# Altium integrated library Transistor.IntLib: 3457 symbols (part 4 of 78)
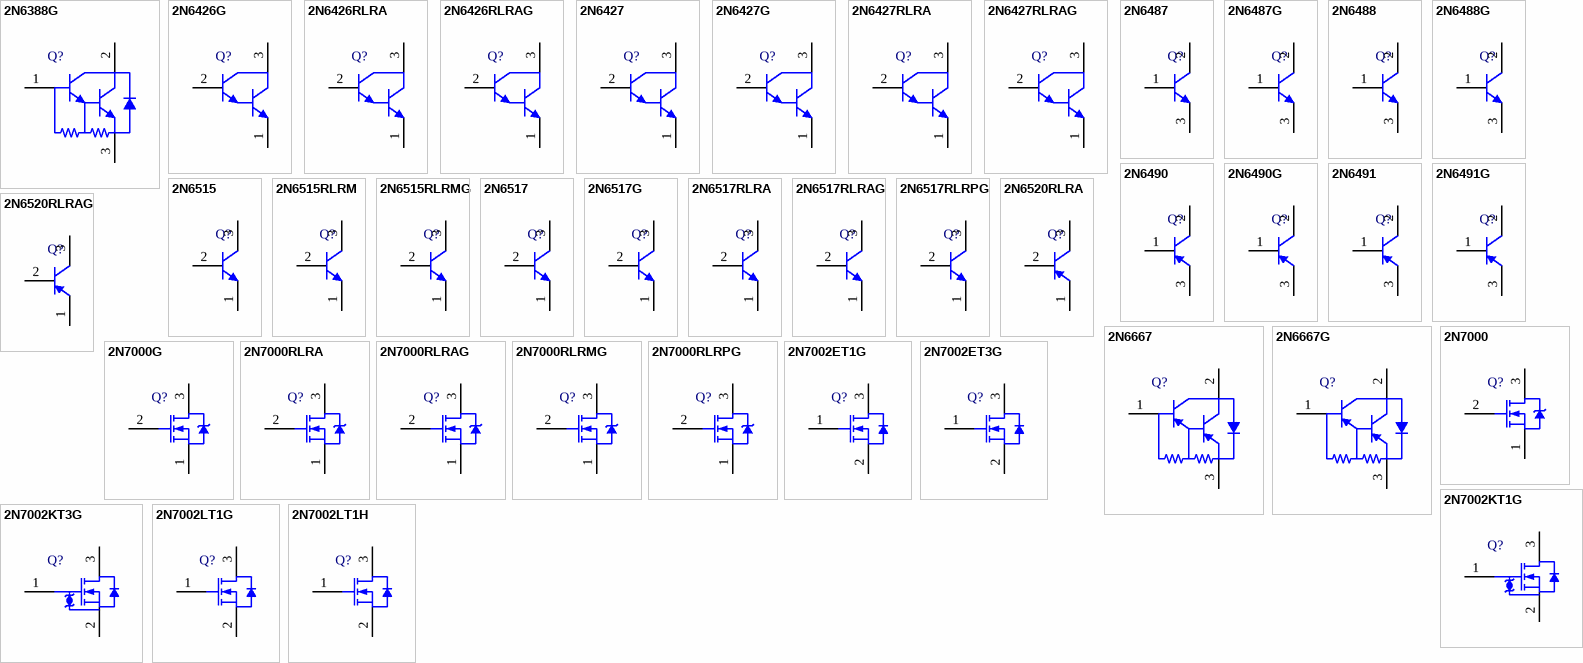
[diagram p97: symbols 2N6388G to 2N7002LT1H]

## 2N7000G
designator Q?
Small Signal MOSFET, 200 mA, 60 V, N-Channel, 3-Pin TO-92, Pb-Free, Bulk Box; Manufacturer: On Semiconductor; PartNumber: 2N7000G; Channel Polarity: N Channel; Ciss Typ (pF): 60; Configuration: Single; Coss Typ (pF): 25; Crss Typ (pF): 5; ID Max (A): 0.2; PD Max (W): 0.35; VGS Max (V): 20; VGS(th) Max (V): 3; DatasheetVersion: Rev. 8; PackageVersion: Rev. AM; PackageReference: TO-92-3-29-11_AM_SL; PackageDescription: 3-Pin Transistor Outline, Body 4.825 x 3.685 mm, Pitch 1.27 mm; Supplier 1: Digi-Key; Supplier Part Number 1: 2N7000GOS-ND; Supplier 2: Farnell; Supplier Part Number 2: 1459027; Supplier 3: Newark; Supplier Part Number 3: 88H5170; Supplier 4: Mouser; Supplier Part Number 4: 863-2N7000G; Package Type: TO-92; Packing: Bulk Box; RoHS: Pb-Free; V(BR)DSS Min (V): 60; Mounting Technology: Through Hole; ComponentLink1Description: Manufacturer URL; ComponentLink1URL: http://www.onsemi.com/; ComponentLink2Description: Datasheet; ComponentLink2URL: http://www.onsemi.com/pub_link/Collateral/2N7000-D.PDF; ComponentLink3Description: Package Specification; ComponentLink3URL: http://www.onsemi.cn/pub_link/Collateral/2N6426-D.PDF
footprint ONSC-TO-92-3-29-11 (TO, 3-Leads, Body Dia 4.7mm, Pitch 1.27mm)
pins: 1 S, 2 G, 3 D

## 2N7000RLRA
designator Q?
Small Signal MOSFET, 200 mA, 60 V, N-Channel, 3-Pin TO-92, Tape and Reel; Manufacturer: On Semiconductor; PartNumber: 2N7000RLRA; Channel Polarity: N Channel; Ciss Typ (pF): 60; Configuration: Single; Coss Typ (pF): 25; Crss Typ (pF): 5; ID Max (A): 0.2; PD Max (W): 0.35; VGS Max (V): 20; VGS(th) Max (V): 3; DatasheetVersion: Rev. 8; PackageVersion: Rev. AM; PackageReference: TO-92-3-29-11_AM_BL; PackageDescription: 3-Pin Transistor Outline, Body 4.825 x 3.685 mm, Pitch 1.27 mm; Supplier 1: Digi-Key; Supplier Part Number 1: 2N7000RLRAOSTR-ND; Supplier 2: Digi-Key; Supplier Part Number 2: 2N7000RLRAOSCT-ND; Package Type: TO-92; Packing: Tape and Reel; V(BR)DSS Min (V): 60; Mounting Technology: Through Hole; ComponentLink1Description: Manufacturer URL; ComponentLink1URL: http://www.onsemi.com/; ComponentLink2Description: Datasheet; ComponentLink2URL: http://www.onsemi.com/pub_link/Collateral/2N7000-D.PDF; ComponentLink3Description: Package Specification; ComponentLink3URL: http://www.onsemi.com/pub_link/Collateral/MAC97-D.PDF
footprint ONSC-TO-92-3-29-11_AM_BL (TO, 3-Leads, Body Dia 4.7mm, Pitch 2.6mm)
pins: 1 S, 2 G, 3 D

## 2N7000RLRAG
designator Q?
Small Signal MOSFET, 200 mA, 60 V, N-Channel, 3-Pin TO-92, Pb-Free, Tape and Reel; Manufacturer: On Semiconductor; PartNumber: 2N7000RLRAG; Channel Polarity: N Channel; Ciss Typ (pF): 60; Configuration: Single; Coss Typ (pF): 25; Crss Typ (pF): 5; ID Max (A): 0.2; PD Max (W): 0.35; VGS Max (V): 20; VGS(th) Max (V): 3; DatasheetVersion: Rev. 8; PackageVersion: Rev. AM; PackageReference: TO-92-3-29-11_AM_BL; PackageDescription: 3-Pin Transistor Outline, Body 4.825 x 3.685 mm, Pitch 1.27 mm; Supplier 1: Digi-Key; Supplier Part Number 1: 2N7000RLRAGOSTR-ND; Supplier 2: Digi-Key; Supplier Part Number 2: 2N7000RLRAGOSCT-ND; Supplier 3: Farnell; Supplier Part Number 3: 1155745; Supplier 4: Farnell; Supplier Part Number 4: 2370859; Supplier 5: Newark; Supplier Part Number 5: 88H5171; Supplier 6: Newark; Supplier Part Number 6: 67R1417; Supplier 7: Mouser; Supplier Part Number 7: 863-2N7000RLRAG; Package Type: TO-92; Packing: Tape and Reel; RoHS: Pb-Free; V(BR)DSS Min (V): 60; Mounting Technology: Through Hole; ComponentLink1Description: Manufacturer URL; ComponentLink1URL: http://www.onsemi.com/; ComponentLink2Description: Datasheet; ComponentLink2URL: http://www.onsemi.com/pub_link/Collateral/2N7000-D.PDF; ComponentLink3Description: Package Specification; ComponentLink3URL: http://www.onsemi.com/pub_link/Collateral/MAC97-D.PDF
footprint ONSC-TO-92-3-29-11_AM_BL (TO, 3-Leads, Body Dia 4.7mm, Pitch 2.6mm)
pins: 1 S, 2 G, 3 D

## 2N7000RLRMG
designator Q?
Small Signal MOSFET, 200 mA, 60 V, N-Channel, 3-Pin TO-92, Pb-Free, Fan-Fold; Manufacturer: On Semiconductor; PartNumber: 2N7000RLRMG; Channel Polarity: N Channel; Ciss Typ (pF): 60; Configuration: Single; Coss Typ (pF): 25; Crss Typ (pF): 5; ID Max (A): 0.2; PD Max (W): 0.35; VGS Max (V): 20; VGS(th) Max (V): 3; DatasheetVersion: Rev. 8; PackageVersion: Rev. AM; PackageReference: TO-92-3-29-11_AM_BL; PackageDescription: 3-Pin Transistor Outline, Body 4.825 x 3.685 mm, Pitch 1.27 mm; Supplier 1: Digi-Key; Supplier Part Number 1: 2N7000RLRMG-ND; Supplier 2: Mouser; Supplier Part Number 2: 863-2N7000RLRMG; Package Type: TO-92; Packing: Fan-Fold; RoHS: Pb-Free; V(BR)DSS Min (V): 60; Mounting Technology: Through Hole; ComponentLink1Description: Manufacturer URL; ComponentLink1URL: http://www.onsemi.com/; ComponentLink2Description: Datasheet; ComponentLink2URL: http://www.onsemi.com/pub_link/Collateral/2N7000-D.PDF; ComponentLink3Description: Package Specification; ComponentLink3URL: http://www.onsemi.com/pub_link/Collateral/MAC97-D.PDF
footprint ONSC-TO-92-3-29-11_AM_BL (TO, 3-Leads, Body Dia 4.7mm, Pitch 2.6mm)
pins: 1 S, 2 G, 3 D

## 2N7000RLRPG
designator Q?
Small Signal MOSFET, 200 mA, 60 V, N-Channel, 3-Pin TO-92, Pb-Free, Fan-Fold; Manufacturer: On Semiconductor; PartNumber: 2N7000RLRPG; Channel Polarity: N Channel; Ciss Typ (pF): 60; Configuration: Single; Coss Typ (pF): 25; Crss Typ (pF): 5; ID Max (A): 0.2; PD Max (W): 0.35; VGS Max (V): 20; VGS(th) Max (V): 3; DatasheetVersion: Rev. 8; PackageVersion: Rev. AM; PackageReference: TO-92-3-29-11_AM_BL; PackageDescription: 3-Pin Transistor Outline, Body 4.825 x 3.685 mm, Pitch 1.27 mm; Supplier 1: Digi-Key; Supplier Part Number 1: 2N7000RLRPG-ND; Supplier 2: Mouser; Supplier Part Number 2: 863-2N7000RLRPG; Package Type: TO-92; Packing: Fan-Fold; RoHS: Pb-Free; V(BR)DSS Min (V): 60; Mounting Technology: Through Hole; ComponentLink1Description: Manufacturer URL; ComponentLink1URL: http://www.onsemi.com/; ComponentLink2Description: Datasheet; ComponentLink2URL: http://www.onsemi.com/pub_link/Collateral/2N7000-D.PDF; ComponentLink3Description: Package Specification; ComponentLink3URL: http://www.onsemi.com/pub_link/Collateral/MAC97-D.PDF
footprint ONSC-TO-92-3-29-11_AM_BL (TO, 3-Leads, Body Dia 4.7mm, Pitch 2.6mm)
pins: 1 S, 2 G, 3 D

## 2N7002ET1G
designator Q?
Small Signal MOSFET, 60 V, 310 mA, Single, N-Channel, 3-Pin SOT-23, Pb-Free, Tape and Reel; Manufacturer: On Semiconductor; PartNumber: 2N7002ET1G; Channel Polarity: N Channel; Ciss Typ (pF): 26.7; Coss Typ (pF): 4.6; Crss Typ (pF): 2.9; ID Max (A): 0.31; V(BR)DSS Min (V): 60; VGS Max (V): 20; VGS(th) Max (V): 2.5; DatasheetVersion: Rev. 3; PackageVersion: Rev. AP, 11/2009; PackageReference: SOT-23-3-318-08; PackageDescription: 3-Pin Small Outline Transistor, Body 2.92 x 1.3 mm, Pitch 0.95 mm; Supplier 1: Digi-Key; Supplier Part Number 1: 2N7002ET1GOSTR-ND; Supplier 2: Digi-Key; Supplier Part Number 2: 2N7002ET1GOSCT-ND; Supplier 3: Digi-Key; Supplier Part Number 3: 2N7002ET1GOSDKR-ND; Supplier 4: Farnell; Supplier Part Number 4: 2317895; Supplier 5: Farnell; Supplier Part Number 5: 2317616; Supplier 6: Newark; Supplier Part Number 6: 09R9861; Supplier 7: Newark; Supplier Part Number 7: 50M2216; Supplier 8: Mouser; Supplier Part Number 8: 863-2N7002ET1G; Configuration: Single; Package Type: SOT-23-3; Packing: Tape and Reel; RoHS: Pb-Free; Mounting Technology: Surface Mount; ComponentLink1Description: Manufacturer URL; ComponentLink1URL: http://www.onsemi.com/; ComponentLink2Description: Datasheet; ComponentLink2URL: http://www.onsemi.com/pub_link/Collateral/2N7002E-D.PDF; ComponentLink3Description: Package Specification; ComponentLink3URL: http://www.onsemi.cn/pub_link/Collateral/318-08.PDF
footprint ONSC-SOT-23-3-318-08_V (SOT23, 3-Leads, Body 2.92x1.3mm, Pitch 0.95mm)
pins: 1 G, 2 S, 3 D

## 2N7002ET3G
designator Q?
Small Signal MOSFET, 60 V, 310 mA, Single, N-Channel, 3-Pin SOT-23, Pb-Free, Tape and Reel; Manufacturer: On Semiconductor; PartNumber: 2N7002ET3G; Channel Polarity: N Channel; Ciss Typ (pF): 26.7; Coss Typ (pF): 4.6; Crss Typ (pF): 2.9; ID Max (A): 0.31; V(BR)DSS Min (V): 60; VGS Max (V): 20; VGS(th) Max (V): 2.5; DatasheetVersion: Rev. 3; PackageVersion: Rev. AP, 11/2009; PackageReference: SOT-23-3-318-08; PackageDescription: 3-Pin Small Outline Transistor, Body 2.92 x 1.3 mm, Pitch 0.95 mm; Supplier 1: Digi-Key; Supplier Part Number 1: 2N7002ET3G-ND; Supplier 2: Newark; Supplier Part Number 2: 09R9862; Supplier 3: Mouser; Supplier Part Number 3: 863-2N7002ET3G; Configuration: Single; Package Type: SOT-23-3; Packing: Tape and Reel; RoHS: Pb-Free; Mounting Technology: Surface Mount; ComponentLink1Description: Manufacturer URL; ComponentLink1URL: http://www.onsemi.com/; ComponentLink2Description: Datasheet; ComponentLink2URL: http://www.onsemi.com/pub_link/Collateral/2N7002E-D.PDF; ComponentLink3Description: Package Specification; ComponentLink3URL: http://www.onsemi.cn/pub_link/Collateral/318-08.PDF
footprint ONSC-SOT-23-3-318-08_V (SOT23, 3-Leads, Body 2.92x1.3mm, Pitch 0.95mm)
pins: 1 G, 2 S, 3 D

## 2N7002KT1G
designator Q?
Small Signal MOSFET, 60 V, 380 mA, Single, N-Channel, 3-Pin SOT-23, Pb-Free, Tape and Reel; Manufacturer: On Semiconductor; PartNumber: 2N7002KT1G; Channel Polarity: N Channel; Ciss Typ (pF): 24.5; Coss Typ (pF): 4.2; Crss Typ (pF): 2.2; ID Max (A): 0.38; V(BR)DSS Min (V): 60; VGS Max (V): 20; VGS(th) Max (V): 2.3; DatasheetVersion: Rev. 11; PackageVersion: Rev. AP, 11/2009; PackageReference: SOT-23-3-318-08; PackageDescription: 3-Pin Small Outline Transistor, Body 2.92 x 1.3 mm, Pitch 0.95 mm; Supplier 1: Digi-Key; Supplier Part Number 1: 2N7002KT1GOSTR-ND; Supplier 2: Digi-Key; Supplier Part Number 2: 2N7002KT1GOSCT-ND; Supplier 3: Digi-Key; Supplier Part Number 3: 2N7002KT1GOSDKR-ND; Supplier 4: Farnell; Supplier Part Number 4: 2317619; Supplier 5: Farnell; Supplier Part Number 5: 2317894; Supplier 6: Newark; Supplier Part Number 6: 50M6388; Supplier 7: Newark; Supplier Part Number 7: 09R9863; Supplier 8: Mouser; Supplier Part Number 8: 863-2N7002KT1G; Configuration: Single; Package Type: SOT-23-3; Packing: Tape and Reel; RoHS: Pb-Free; Mounting Technology: Surface Mount; ComponentLink1Description: Manufacturer URL; ComponentLink1URL: http://www.onsemi.com/; ComponentLink2Description: Datasheet; ComponentLink2URL: http://www.onsemi.com/pub_link/Collateral/2N7002K-D.PDF; ComponentLink3Description: Package Specification; ComponentLink3URL: http://www.onsemi.cn/pub_link/Collateral/318-08.PDF
footprint ONSC-SOT-23-3-318-08_V (SOT23, 3-Leads, Body 2.92x1.3mm, Pitch 0.95mm)
pins: 1 G, 2 S, 3 D

## 2N7002KT3G
designator Q?
Small Signal MOSFET, 60 V, 380 mA, Single, N-Channel, 3-Pin SOT-23, Pb-Free, Tape and Reel; Manufacturer: On Semiconductor; PartNumber: 2N7002KT3G; Channel Polarity: N Channel; Ciss Typ (pF): 24.5; Coss Typ (pF): 4.2; Crss Typ (pF): 2.2; ID Max (A): 0.38; V(BR)DSS Min (V): 60; VGS Max (V): 20; VGS(th) Max (V): 2.3; DatasheetVersion: Rev. 11; PackageVersion: Rev. AP, 11/2009; PackageReference: SOT-23-3-318-08; PackageDescription: 3-Pin Small Outline Transistor, Body 2.92 x 1.3 mm, Pitch 0.95 mm; Supplier 1: Digi-Key; Supplier Part Number 1: 2N7002KT3G-ND; Supplier 2: Mouser; Supplier Part Number 2: 863-2N7002KT3G; Configuration: Single; Package Type: SOT-23-3; Packing: Tape and Reel; RoHS: Pb-Free; Mounting Technology: Surface Mount; ComponentLink1Description: Manufacturer URL; ComponentLink1URL: http://www.onsemi.com/; ComponentLink2Description: Datasheet; ComponentLink2URL: http://www.onsemi.com/pub_link/Collateral/2N7002K-D.PDF; ComponentLink3Description: Package Specification; ComponentLink3URL: http://www.onsemi.cn/pub_link/Collateral/318-08.PDF
footprint ONSC-SOT-23-3-318-08_V (SOT23, 3-Leads, Body 2.92x1.3mm, Pitch 0.95mm)
pins: 1 G, 2 S, 3 D

## 2N7002LT1G
designator Q?
Small Signal MOSFET, 60 V, 115 mA, N-Channel, 3-Pin SOT-23, Pb-Free, Tape and Reel; Manufacturer: On Semiconductor; PartNumber: 2N7002LT1G; Channel Polarity: N Channel; Configuration: Single; ID Max (A): 0.115; V(BR)DSS Min (V): 60; VGS Max (V): 20; VGS(th) Max (V): 2.5; DatasheetVersion: Rev. 7; PackageVersion: Rev. AP, 11/2009; PackageReference: SOT-23-3-318-08; PackageDescription: 3-Pin Small Outline Transistor, Body 2.92 x 1.3 mm, Pitch 0.95 mm; Supplier 1: Digi-Key; Supplier Part Number 1: 2N7002LT1GOSTR-ND; Supplier 2: Digi-Key; Supplier Part Number 2: 2N7002LT1GOSCT-ND; Supplier 3: Digi-Key; Supplier Part Number 3: 2N7002LT1GOSDKR-ND; Supplier 4: Farnell; Supplier Part Number 4: 9558624RL; Supplier 5: Farnell; Supplier Part Number 5: 9558624; Supplier 6: Farnell; Supplier Part Number 6: 2363494; Supplier 7: Newark; Supplier Part Number 7: 67R1418; Supplier 8: Newark; Supplier Part Number 8: 83H7920; Supplier 9: Mouser; Supplier Part Number 9: 863-2N7002LT1G; Package Type: SOT-23-3; Packing: Tape and Reel; RoHS: Pb-Free; Mounting Technology: Surface Mount; ComponentLink1Description: Manufacturer URL; ComponentLink1URL: http://www.onsemi.com/; ComponentLink2Description: Datasheet; ComponentLink2URL: http://www.onsemi.com/pub_link/Collateral/2N7002L-D.PDF; ComponentLink3Description: Package Specification; ComponentLink3URL: http://www.onsemi.cn/pub_link/Collateral/318-08.PDF
footprint ONSC-SOT-23-3-318-08_V (SOT23, 3-Leads, Body 2.92x1.3mm, Pitch 0.95mm)
pins: 1 G, 2 S, 3 D

## 2N7002LT1H
designator Q?
Small Signal MOSFET, 60 V, 115 mA, N-Channel, 3-Pin SOT-23, Pb-Free, Tape and Reel; Manufacturer: On Semiconductor; PartNumber: 2N7002LT1H; Channel Polarity: N Channel; Configuration: Single; ID Max (A): 0.115; V(BR)DSS Min (V): 60; VGS Max (V): 20; VGS(th) Max (V): 2.5; DatasheetVersion: Rev. 7; PackageVersion: Rev. AP, 11/2009; PackageReference: SOT-23-3-318-08; PackageDescription: 3-Pin Small Outline Transistor, Body 2.92 x 1.3 mm, Pitch 0.95 mm; Supplier 1: Mouser; Supplier Part Number 1: N/A; Package Type: SOT-23-3; Packing: Tape and Reel; RoHS: Pb-Free; Mounting Technology: Surface Mount; ComponentLink1Description: Manufacturer URL; ComponentLink1URL: http://www.onsemi.com/; ComponentLink2Description: Datasheet; ComponentLink2URL: http://www.onsemi.com/pub_link/Collateral/2N7002L-D.PDF; ComponentLink3Description: Package Specification; ComponentLink3URL: http://www.onsemi.cn/pub_link/Collateral/318-08.PDF
footprint ONSC-SOT-23-3-318-08_V (SOT23, 3-Leads, Body 2.92x1.3mm, Pitch 0.95mm)
pins: 1 G, 2 S, 3 D

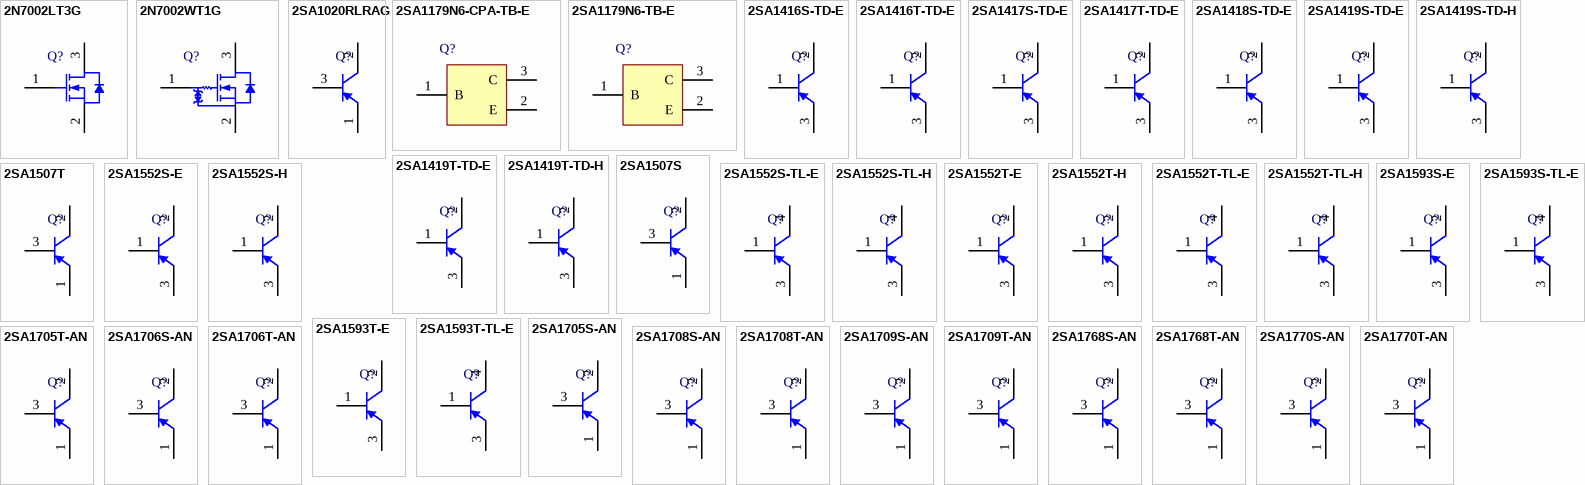
[diagram p4: symbols 2N7002LT3G to 2SA1770T-AN]

## 2N7002LT3G
designator Q?
Small Signal MOSFET, 60 V, 115 mA, N-Channel, 3-Pin SOT-23, Pb-Free, Tape and Reel; Manufacturer: On Semiconductor; PartNumber: 2N7002LT3G; Channel Polarity: N Channel; Configuration: Single; ID Max (A): 0.115; V(BR)DSS Min (V): 60; VGS Max (V): 20; VGS(th) Max (V): 2.5; DatasheetVersion: Rev. 7; PackageVersion: Rev. AP, 11/2009; PackageReference: SOT-23-3-318-08; PackageDescription: 3-Pin Small Outline Transistor, Body 2.92 x 1.3 mm, Pitch 0.95 mm; Supplier 1: Digi-Key; Supplier Part Number 1: 2N7002LT3GOSTR-ND; Supplier 2: Digi-Key; Supplier Part Number 2: 2N7002LT3GOSCT-ND; Supplier 3: Digi-Key; Supplier Part Number 3: 2N7002LT3GOSDKR-ND; Supplier 4: Farnell; Supplier Part Number 4: 1764537; Supplier 5: Farnell; Supplier Part Number 5: 2372924; Supplier 6: Newark; Supplier Part Number 6: 98H1012; Supplier 7: Newark; Supplier Part Number 7: 09R9864; Supplier 8: Mouser; Supplier Part Number 8: 863-2N7002LT3G; Package Type: SOT-23-3; Packing: Tape and Reel; RoHS: Pb-Free; Mounting Technology: Surface Mount; ComponentLink1Description: Manufacturer URL; ComponentLink1URL: http://www.onsemi.com/; ComponentLink2Description: Datasheet; ComponentLink2URL: http://www.onsemi.com/pub_link/Collateral/2N7002L-D.PDF; ComponentLink3Description: Package Specification; ComponentLink3URL: http://www.onsemi.cn/pub_link/Collateral/318-08.PDF
footprint ONSC-SOT-23-3-318-08_V (SOT23, 3-Leads, Body 2.92x1.3mm, Pitch 0.95mm)
pins: 1 G, 2 S, 3 D

## 2N7002WT1G
designator Q?
Small Signal MOSFET, 60 V, 340 mA, Single, N-Channel, 3-Pin SC70, Pb-Free, Tape and Reel; Manufacturer: On Semiconductor; PartNumber: 2N7002WT1G; Channel Polarity: N Channel; Ciss Typ (pF): 24.5; Coss Typ (pF): 4.2; Crss Typ (pF): 2.2; ID Max (A): 0.34; V(BR)DSS Min (V): 60; VGS Max (V): 20; VGS(th) Max (V): 2.5; DatasheetVersion: Rev. 5; PackageVersion: Rev. N, 11/2008; PackageReference: SC-70-3-419-04; PackageDescription: 3-Pin Small Outline Transistor, Body 2 x 1.25 mm, Pitch 0.65 mm; Supplier 1: Digi-Key; Supplier Part Number 1: 2N7002WT1GOSTR-ND; Supplier 2: Digi-Key; Supplier Part Number 2: 2N7002WT1GOSCT-ND; Supplier 3: Digi-Key; Supplier Part Number 3: 2N7002WT1GOSDKR-ND; Supplier 4: Farnell; Supplier Part Number 4: 2369562; Supplier 5: Farnell; Supplier Part Number 5: 1764538; Supplier 6: Newark; Supplier Part Number 6: 09R9865; Supplier 7: Newark; Supplier Part Number 7: 50M6390; Supplier 8: Mouser; Supplier Part Number 8: 863-2N7002WT1G; Configuration: Single; Package Type: SC-70-3 / SOT-323-3; Packing: Tape and Reel; RoHS: Pb-Free; Mounting Technology: Surface Mount; ComponentLink1Description: Manufacturer URL; ComponentLink1URL: http://www.onsemi.com/; ComponentLink2Description: Datasheet; ComponentLink2URL: http://www.onsemi.com/pub_link/Collateral/2N7002W-D.PDF; ComponentLink3Description: Package Specification; ComponentLink3URL: http://www.onsemi.cn/pub_link/Collateral/419-04.PDF
footprint ONSC-SC-70-3-419-04_V (SOT23, 3-Leads, Body 2x1.25mm, Pitch 0.65mm)
pins: 1 G, 2 S, 3 D

## 2SA1020RLRAG
designator Q?
One Watt High Current PNP Transistor, 3-Pin TO-92, Pb-Free, Tape and Reel; Manufacturer: On Semiconductor; PartNumber: 2SA1020RLRAG; fT Min (MHz): 100; IC Continuous (A): -2; DatasheetVersion: Rev. 4; PackageVersion: Rev. A, 05/2012; PackageReference: TO-92-3-29-10_BL; PackageDescription: 3-Pin Transistor Outline, Body 4.825 x 3.685 mm, Pitch 1.27 mm; Supplier 1: Digi-Key; Supplier Part Number 1: 2SA1020RLRAGOSTR-ND; Supplier 2: Digi-Key; Supplier Part Number 2: 2SA1020RLRAGOSCT-ND; Supplier 3: Farnell; Supplier Part Number 3: 2317560; Supplier 4: Newark; Supplier Part Number 4: 90W9724; Supplier 5: Newark; Supplier Part Number 5: 88H5175; Supplier 6: Mouser; Supplier Part Number 6: 863-2SA1020RLRAG; Packing: Tape and Reel; Polarity: PNP; RoHS: TRUE; Mounting Technology: Through Hole; ComponentLink1Description: Manufacturer URL; ComponentLink1URL: http://www.onsemi.com/; ComponentLink2Description: Datasheet; ComponentLink2URL: http://www.onsemi.com/pub_link/Collateral/2SA1020-D.PDF; ComponentLink3Description: Package Specification; ComponentLink3URL: http://www.onsemi.cn/pub_link/Collateral/29-10.PDF
footprint ONSC-TO-92-3-29-10_BL (TO, 3-Leads, Body Dia 4.7 mm, Pitch 2.6 mm)
pins: 1 E, 2 C, 3 B

## 2SA1179N6-CPA-TB-E
designator Q?
Bipolar Transistor, -50 V, -150 mA, Low VCE(sat), PNP Single, 3-Pin CPA, Pb-Free, Tape and Reel; Manufacturer: On Semiconductor; PartNumber: 2SA1179N6-CPA-TB-E; IC Continuous (A): -0.15; PackageReference: CPA-3; PackageDescription: 3-Pin FM, Body 8.1 x 10 mm, Pitch 2.54 mm; Supplier 1: Digi-Key; Supplier Part Number 1: 2SA1179N6-CPA-TB-E-ND; Supplier 2: Newark; Supplier Part Number 2: 07W7576; Supplier 3: Mouser; Supplier Part Number 3: 863-2SA1179N6CPATB-E; Packing: Tape and Reel; Polarity: PNP; RoHS: TRUE; Mounting Technology: Surface Mount; ComponentLink1Description: Manufacturer URL; ComponentLink1URL: http://www.onsemi.com/; ComponentLink2Description: Datasheet; ComponentLink2URL: http://www.onsemi.com/pub_link/Collateral/EN7198-D.PDF; ComponentLink3Description: Package Specification; ComponentLink3URL: http://www.onsemi.com/pub_link/Collateral/EN7198-D.PDF
footprint ONSC-CPA-3_V (SOT23, 3-Leads, Body 2.93x1.3mm, Pitch 0.95mm)
pins: 1 B, 2 E, 3 C

## 2SA1179N6-TB-E
designator Q?
Bipolar Transistor, -50 V, -150 mA, Low VCE(sat), PNP Single, 3-Pin CPA, Pb-Free, Tape and Reel; Manufacturer: On Semiconductor; PartNumber: 2SA1179N6-TB-E; IC Continuous (A): -0.15; PackageReference: CPA-3; PackageDescription: 3-Pin FM, Body 8.1 x 10 mm, Pitch 2.54 mm; Supplier 1: Digi-Key; Supplier Part Number 1: 2SA1179N6-TB-E-ND; Supplier 2: Newark; Supplier Part Number 2: 65T2426; Supplier 3: Mouser; Supplier Part Number 3: 863-2SA1179N6-TB-E; Packing: Tape and Reel; Polarity: PNP; RoHS: TRUE; Mounting Technology: Surface Mount; ComponentLink1Description: Manufacturer URL; ComponentLink1URL: http://www.onsemi.com/; ComponentLink2Description: Datasheet; ComponentLink2URL: http://www.onsemi.com/pub_link/Collateral/EN7198-D.PDF; ComponentLink3Description: Package Specification; ComponentLink3URL: http://www.onsemi.com/pub_link/Collateral/EN7198-D.PDF
footprint ONSC-CPA-3_V (SOT23, 3-Leads, Body 2.93x1.3mm, Pitch 0.95mm)
pins: 1 B, 2 E, 3 C

## 2SA1416S-TD-E
designator Q?
Bipolar Transistor, -100 V, -1 A, Low VCE(sat), PNP Single, 3-Pin SOT-89, Pb-Free, Tape and Reel; Manufacturer: On Semiconductor; PartNumber: 2SA1416S-TD-E; PackageVersion: Rev. O, 04/2012; PackageReference: SOT-89_PCP-1-3-419AU; PackageDescription: 3-Pin Small Outline Transistor, Body 4.5 x 2.5 mm, Pitch 1.5 mm; Supplier 1: Digi-Key; Supplier Part Number 1: 2SA1416S-TD-E-ND; Supplier 2: Mouser; Supplier Part Number 2: 863-2SA1416S-TD-E; IC Continuous (A): -1; Packing: Tape and Reel; Polarity: PNP; RoHS: TRUE; Mounting Technology: Surface Mount; ComponentLink1Description: Manufacturer URL; ComponentLink1URL: http://www.onsemi.com/; ComponentLink2Description: Datasheet; ComponentLink2URL: http://www.onsemi.com/pub_link/Collateral/EN2005-D.PDF; ComponentLink3Description: Package Specification; ComponentLink3URL: http://www.onsemi.com/pub_link/Collateral/ENA1087-D.PDF
footprint ONSC-SOT-89_PCP-1-3-419AU_V (SOT89, 3-Leads, Body 4.5x2.5mm, Pitch 1.5mm)
pins: 1 B, 2 C, 3 E

## 2SA1416T-TD-E
designator Q?
Bipolar Transistor, -100 V, -1 A, Low VCE(sat), PNP Single, 3-Pin SOT-89, Pb-Free, Tape and Reel; Manufacturer: On Semiconductor; PartNumber: 2SA1416T-TD-E; PackageVersion: Rev. O, 04/2012; PackageReference: SOT-89_PCP-1-3-419AU; PackageDescription: 3-Pin Small Outline Transistor, Body 4.5 x 2.5 mm, Pitch 1.5 mm; Supplier 1: Digi-Key; Supplier Part Number 1: 2SA1416T-TD-E-ND; Supplier 2: Mouser; Supplier Part Number 2: 863-2SA1416T-TD-E; IC Continuous (A): -1; Packing: Tape and Reel; Polarity: PNP; RoHS: TRUE; Mounting Technology: Surface Mount; ComponentLink1Description: Manufacturer URL; ComponentLink1URL: http://www.onsemi.com/; ComponentLink2Description: Datasheet; ComponentLink2URL: http://www.onsemi.com/pub_link/Collateral/EN2005-D.PDF; ComponentLink3Description: Package Specification; ComponentLink3URL: http://www.onsemi.com/pub_link/Collateral/ENA1087-D.PDF
footprint ONSC-SOT-89_PCP-1-3-419AU_V (SOT89, 3-Leads, Body 4.5x2.5mm, Pitch 1.5mm)
pins: 1 B, 2 C, 3 E

## 2SA1417S-TD-E
designator Q?
Bipolar Transistor, -100 V, -2 A, Low VCE(sat), PNP Single, 3-Pin SOT-89, Pb-Free, Tape and Reel; Manufacturer: On Semiconductor; PartNumber: 2SA1417S-TD-E; PackageVersion: Rev. O, 04/2012; PackageReference: SOT-89_PCP-1-3-419AU; PackageDescription: 3-Pin Small Outline Transistor, Body 4.5 x 2.5 mm, Pitch 1.5 mm; Supplier 1: Digi-Key; Supplier Part Number 1: 2SA1417S-TD-E-ND; Supplier 2: Mouser; Supplier Part Number 2: 863-2SA1417S-TD-E; IC Continuous (A): -2; Packing: Tape and Reel; Polarity: PNP; RoHS: TRUE; Mounting Technology: Surface Mount; ComponentLink1Description: Manufacturer URL; ComponentLink1URL: http://www.onsemi.com/; ComponentLink2Description: Datasheet; ComponentLink2URL: http://www.onsemi.com/pub_link/Collateral/EN2006-D.PDF; ComponentLink3Description: Package Specification; ComponentLink3URL: http://www.onsemi.com/pub_link/Collateral/ENA1087-D.PDF
footprint ONSC-SOT-89_PCP-1-3-419AU_V (SOT89, 3-Leads, Body 4.5x2.5mm, Pitch 1.5mm)
pins: 1 B, 2 C, 3 E

## 2SA1417T-TD-E
designator Q?
Bipolar Transistor, -100 V, -2 A, Low VCE(sat), PNP Single, 3-Pin SOT-89, Pb-Free, Tape and Reel; Manufacturer: On Semiconductor; PartNumber: 2SA1417T-TD-E; PackageVersion: Rev. O, 04/2012; PackageReference: SOT-89_PCP-1-3-419AU; PackageDescription: 3-Pin Small Outline Transistor, Body 4.5 x 2.5 mm, Pitch 1.5 mm; Supplier 1: Digi-Key; Supplier Part Number 1: 2SA1417T-TD-E-ND; Supplier 2: Mouser; Supplier Part Number 2: 863-2SA1417T-TD-E; IC Continuous (A): -2; Packing: Tape and Reel; Polarity: PNP; RoHS: TRUE; Mounting Technology: Surface Mount; ComponentLink1Description: Manufacturer URL; ComponentLink1URL: http://www.onsemi.com/; ComponentLink2Description: Datasheet; ComponentLink2URL: http://www.onsemi.com/pub_link/Collateral/EN2006-D.PDF; ComponentLink3Description: Package Specification; ComponentLink3URL: http://www.onsemi.com/pub_link/Collateral/ENA1087-D.PDF
footprint ONSC-SOT-89_PCP-1-3-419AU_V (SOT89, 3-Leads, Body 4.5x2.5mm, Pitch 1.5mm)
pins: 1 B, 2 C, 3 E

## 2SA1418S-TD-E
designator Q?
Bipolar Transistor, -160 V, -0.7 A, Low VCE(sat), PNP Single, 3-Pin SOT-89, Pb-Free, Tape and Reel; Manufacturer: On Semiconductor; PartNumber: 2SA1418S-TD-E; PackageVersion: Rev. O, 04/2012; PackageReference: SOT-89_PCP-1-3-419AU; PackageDescription: 3-Pin Small Outline Transistor, Body 4.5 x 2.5 mm, Pitch 1.5 mm; Supplier 1: Digi-Key; Supplier Part Number 1: 2SA1418S-TD-E-ND; Supplier 2: Newark; Supplier Part Number 2: 65T2431; Supplier 3: Mouser; Supplier Part Number 3: 863-2SA1418S-TD-E; IC Continuous (A): -0.7; Packing: Tape and Reel; Polarity: PNP; RoHS: TRUE; Mounting Technology: Surface Mount; ComponentLink1Description: Manufacturer URL; ComponentLink1URL: http://www.onsemi.com/; ComponentLink2Description: Datasheet; ComponentLink2URL: http://www.onsemi.com/pub_link/Collateral/EN1788-D.PDF; ComponentLink3Description: Package Specification; ComponentLink3URL: http://www.onsemi.com/pub_link/Collateral/ENA1087-D.PDF
footprint ONSC-SOT-89_PCP-1-3-419AU_V (SOT89, 3-Leads, Body 4.5x2.5mm, Pitch 1.5mm)
pins: 1 B, 2 C, 3 E

## 2SA1419S-TD-E
designator Q?
Bipolar Transistor, -160 V, -1.5 A, Low VCE(sat), PNP Single, 3-Pin SOT-89, Pb-Free, Tape and Reel; Manufacturer: On Semiconductor; PartNumber: 2SA1419S-TD-E; PackageVersion: Rev. O, 04/2012; PackageReference: SOT-89_PCP-1-3-419AU; PackageDescription: 3-Pin Small Outline Transistor, Body 4.5 x 2.5 mm, Pitch 1.5 mm; Supplier 1: Digi-Key; Supplier Part Number 1: 2SA1419S-TD-E-ND; Supplier 2: Mouser; Supplier Part Number 2: 863-2SA1419S-TD-E; IC Continuous (A): -1.5; Packing: Tape and Reel; Polarity: PNP; RoHS: TRUE; Mounting Technology: Surface Mount; ComponentLink1Description: Manufacturer URL; ComponentLink1URL: http://www.onsemi.com/; ComponentLink2Description: Datasheet; ComponentLink2URL: http://www.onsemi.com/pub_link/Collateral/EN2007-D.PDF; ComponentLink3Description: Package Specification; ComponentLink3URL: http://www.onsemi.com/pub_link/Collateral/ENA1087-D.PDF
footprint ONSC-SOT-89_PCP-1-3-419AU_V (SOT89, 3-Leads, Body 4.5x2.5mm, Pitch 1.5mm)
pins: 1 B, 2 C, 3 E

## 2SA1419S-TD-H
designator Q?
Bipolar Transistor, -160 V, -1.5 A, Low VCE(sat), PNP Single, 3-Pin SOT-89, Pb-Free, Tape and Reel; Manufacturer: On Semiconductor; PartNumber: 2SA1419S-TD-H; PackageVersion: Rev. O, 04/2012; PackageReference: SOT-89_PCP-1-3-419AU; PackageDescription: 3-Pin Small Outline Transistor, Body 4.5 x 2.5 mm, Pitch 1.5 mm; Supplier 1: Digi-Key; Supplier Part Number 1: 2SA1419S-TD-H-ND; Supplier 2: Mouser; Supplier Part Number 2: 863-2SA1419S-TD-H; IC Continuous (A): -1.5; Packing: Tape and Reel; Polarity: PNP; RoHS: TRUE; Mounting Technology: Surface Mount; ComponentLink1Description: Manufacturer URL; ComponentLink1URL: http://www.onsemi.com/; ComponentLink2Description: Datasheet; ComponentLink2URL: http://www.onsemi.com/pub_link/Collateral/EN2007-D.PDF; ComponentLink3Description: Package Specification; ComponentLink3URL: http://www.onsemi.com/pub_link/Collateral/ENA1087-D.PDF
footprint ONSC-SOT-89_PCP-1-3-419AU_V (SOT89, 3-Leads, Body 4.5x2.5mm, Pitch 1.5mm)
pins: 1 B, 2 C, 3 E

## 2SA1419T-TD-E
designator Q?
Bipolar Transistor, -160 V, -1.5 A, Low VCE(sat), PNP Single, 3-Pin SOT-89, Pb-Free, Tape and Reel; Manufacturer: On Semiconductor; PartNumber: 2SA1419T-TD-E; PackageVersion: Rev. O, 04/2012; PackageReference: SOT-89_PCP-1-3-419AU; PackageDescription: 3-Pin Small Outline Transistor, Body 4.5 x 2.5 mm, Pitch 1.5 mm; Supplier 1: Digi-Key; Supplier Part Number 1: 2SA1419T-TD-E-ND; Supplier 2: Mouser; Supplier Part Number 2: 863-2SA1419T-TD-E; IC Continuous (A): -1.5; Packing: Tape and Reel; Polarity: PNP; RoHS: TRUE; Mounting Technology: Surface Mount; ComponentLink1Description: Manufacturer URL; ComponentLink1URL: http://www.onsemi.com/; ComponentLink2Description: Datasheet; ComponentLink2URL: http://www.onsemi.com/pub_link/Collateral/EN2007-D.PDF; ComponentLink3Description: Package Specification; ComponentLink3URL: http://www.onsemi.com/pub_link/Collateral/ENA1087-D.PDF
footprint ONSC-SOT-89_PCP-1-3-419AU_V (SOT89, 3-Leads, Body 4.5x2.5mm, Pitch 1.5mm)
pins: 1 B, 2 C, 3 E

## 2SA1419T-TD-H
designator Q?
Bipolar Transistor, -160 V, -1.5 A, Low VCE(sat), PNP Single, 3-Pin SOT-89, Pb-Free, Tape and Reel; Manufacturer: On Semiconductor; PartNumber: 2SA1419T-TD-H; PackageVersion: Rev. O, 04/2012; PackageReference: SOT-89_PCP-1-3-419AU; PackageDescription: 3-Pin Small Outline Transistor, Body 4.5 x 2.5 mm, Pitch 1.5 mm; Supplier 1: Digi-Key; Supplier Part Number 1: 2SA1419T-TD-H-ND; Supplier 2: Mouser; Supplier Part Number 2: 863-2SA1419T-TD-H; IC Continuous (A): -1.5; Packing: Tape and Reel; Polarity: PNP; RoHS: TRUE; Mounting Technology: Surface Mount; ComponentLink1Description: Manufacturer URL; ComponentLink1URL: http://www.onsemi.com/; ComponentLink2Description: Datasheet; ComponentLink2URL: http://www.onsemi.com/pub_link/Collateral/EN2007-D.PDF; ComponentLink3Description: Package Specification; ComponentLink3URL: http://www.onsemi.com/pub_link/Collateral/ENA1087-D.PDF
footprint ONSC-SOT-89_PCP-1-3-419AU_V (SOT89, 3-Leads, Body 4.5x2.5mm, Pitch 1.5mm)
pins: 1 B, 2 C, 3 E

## 2SA1507S
designator Q?
Bipolar Transistor, -160 V, -1.5 A, Low VCE(sat), PNP Single, 3-Pin TO-126ML, Pb-Free, Bulk Bag; Manufacturer: On Semiconductor; PartNumber: 2SA1507S; PackageVersion: Rev. O, 01/2012; PackageReference: TO-126ML-3-77AC; PackageDescription: 3-Pin Flange Mount, Vertical Straight Lead, Body 8 x 3.3 mm, Pitch 2.4 mm; Supplier 1: Digi-Key; Supplier Part Number 1: 2SA1507S-ND; Supplier 2: Mouser; Supplier Part Number 2: 863-2SA1507S; IC Continuous (A): -1.5; Packing: Bulk Bag; Polarity: PNP; RoHS: TRUE; Mounting Technology: Through Hole; ComponentLink1Description: Manufacturer URL; ComponentLink1URL: http://www.onsemi.com/; ComponentLink2Description: Datasheet; ComponentLink2URL: http://www.onsemi.com/pub_link/Collateral/EN2101-D.PDF; ComponentLink3Description: Package Specification; ComponentLink3URL: http://www.onsemi.com/pub_link/Collateral/77AC.PDF
footprint ONSC-TO-126ML-3-77AC (FM, 3-Leads, Body 8.2x3.5mm, Pitch 2.4mm)
pins: 1 E, 2 C, 3 B

## 2SA1507T
designator Q?
Bipolar Transistor, -160 V, -1.5 A, Low VCE(sat), PNP Single, 3-Pin TO-126ML, Pb-Free, Bulk Bag; Manufacturer: On Semiconductor; PartNumber: 2SA1507T; PackageVersion: Rev. O, 01/2012; PackageReference: TO-126ML-3-77AC; PackageDescription: 3-Pin Flange Mount, Vertical Straight Lead, Body 8 x 3.3 mm, Pitch 2.4 mm; Supplier 1: Digi-Key; Supplier Part Number 1: 2SA1507T-ND; Supplier 2: Mouser; Supplier Part Number 2: 863-2SA1507T; IC Continuous (A): -1.5; Packing: Bulk Bag; Polarity: PNP; RoHS: TRUE; Mounting Technology: Through Hole; ComponentLink1Description: Manufacturer URL; ComponentLink1URL: http://www.onsemi.com/; ComponentLink2Description: Datasheet; ComponentLink2URL: http://www.onsemi.com/pub_link/Collateral/EN2101-D.PDF; ComponentLink3Description: Package Specification; ComponentLink3URL: http://www.onsemi.com/pub_link/Collateral/77AC.PDF
footprint ONSC-TO-126ML-3-77AC (FM, 3-Leads, Body 8.2x3.5mm, Pitch 2.4mm)
pins: 1 E, 2 C, 3 B

## 2SA1552S-E
designator Q?
Bipolar Transistor, -160 V, -1.5 A, Low VCE(sat), PNP Single, 3-Pin IPAK, Pb-Free, Bulk Bag; Manufacturer: On Semiconductor; PartNumber: 2SA1552S-E; PackageVersion: Rev. O, 01/2012; PackageReference: IPAK-3-369AJ; PackageDescription: 3-Pin Flange Mount, Vertical Straight Lead, Body 6.5 x 5.5 mm, Pitch 2.3 mm; Supplier 1: Digi-Key; Supplier Part Number 1: 2SA1552S-E-ND; Supplier 2: Mouser; Supplier Part Number 2: 863-2SA1552S-E; IC Continuous (A): -1.5; Packing: Bulk Bag; Polarity: PNP; RoHS: TRUE; Mounting Technology: Through Hole; ComponentLink1Description: Manufacturer URL; ComponentLink1URL: http://www.onsemi.com/; ComponentLink2Description: Datasheet; ComponentLink2URL: http://www.onsemi.com/pub_link/Collateral/EN2262-D.PDF; ComponentLink3Description: Package Specification; ComponentLink3URL: http://www.onsemi.cn/pub_link/Collateral/369AJ.PDF
footprint ONSC-IPAK-3-369AJ (FM, 3-Leads, Body 6.7x2.5mm, Pitch 2.3mm)
pins: 1 B, 2 C, 3 E

## 2SA1552S-H
designator Q?
Bipolar Transistor, -160 V, -1.5 A, Low VCE(sat), PNP Single, 3-Pin IPAK, Pb-Free, Bulk Bag; Manufacturer: On Semiconductor; PartNumber: 2SA1552S-H; PackageVersion: Rev. O, 01/2012; PackageReference: IPAK-3-369AJ; PackageDescription: 3-Pin Flange Mount, Vertical Straight Lead, Body 6.5 x 5.5 mm, Pitch 2.3 mm; Supplier 1: Digi-Key; Supplier Part Number 1: 2SA1552S-H-ND; Supplier 2: Mouser; Supplier Part Number 2: 863-2SA1552S-H; IC Continuous (A): -1.5; Packing: Bulk Bag; Polarity: PNP; RoHS: TRUE; Mounting Technology: Through Hole; ComponentLink1Description: Manufacturer URL; ComponentLink1URL: http://www.onsemi.com/; ComponentLink2Description: Datasheet; ComponentLink2URL: http://www.onsemi.com/pub_link/Collateral/EN2262-D.PDF; ComponentLink3Description: Package Specification; ComponentLink3URL: http://www.onsemi.cn/pub_link/Collateral/369AJ.PDF
footprint ONSC-IPAK-3-369AJ (FM, 3-Leads, Body 6.7x2.5mm, Pitch 2.3mm)
pins: 1 B, 2 C, 3 E

## 2SA1552S-TL-E
designator Q?
Bipolar Transistor, -160 V, -1.5 A, Low VCE(sat), PNP Single, 3-Pin TP-FA, Pb-Free, Tape and Reel; Manufacturer: On Semiconductor; PartNumber: 2SA1552S-TL-E; PackageVersion: Rev. O, 01/2012; PackageReference: TP-FA-3-369AH; PackageDescription: 3-Pin Flange Mount, Body 6.5 x 5.5 mm, Pitch 2.3 mm; Supplier 1: Digi-Key; Supplier Part Number 1: 2SA1552S-TL-E-ND; Supplier 2: Mouser; Supplier Part Number 2: 863-2SA1552S-TL-E; IC Continuous (A): -1.5; Packing: Tape and Reel; Polarity: PNP; RoHS: TRUE; Mounting Technology: Surface Mount; ComponentLink1Description: Manufacturer URL; ComponentLink1URL: http://www.onsemi.com/; ComponentLink2Description: Datasheet; ComponentLink2URL: http://www.onsemi.com/pub_link/Collateral/EN2262-D.PDF; ComponentLink3Description: Package Specification; ComponentLink3URL: http://www.onsemi.com/pub_link/Collateral/369AH.PDF
footprint ONSC-TP-FA-3-369AH_V (DPAK, 3-Leads, Body 6.5x5.5mm, Pitch 2.3mm)
pins: 1 B, 3 E, 4 C

## 2SA1552S-TL-H
designator Q?
Bipolar Transistor, -160 V, -1.5 A, Low VCE(sat), PNP Single, 3-Pin TP-FA, Pb-Free, Tape and Reel; Manufacturer: On Semiconductor; PartNumber: 2SA1552S-TL-H; PackageVersion: Rev. O, 01/2012; PackageReference: TP-FA-3-369AH; PackageDescription: 3-Pin Flange Mount, Body 6.5 x 5.5 mm, Pitch 2.3 mm; Supplier 1: Digi-Key; Supplier Part Number 1: 2SA1552S-TL-H-ND; Supplier 2: Mouser; Supplier Part Number 2: 863-2SA1552S-TL-H; IC Continuous (A): -1.5; Packing: Tape and Reel; Polarity: PNP; RoHS: TRUE; Mounting Technology: Surface Mount; ComponentLink1Description: Manufacturer URL; ComponentLink1URL: http://www.onsemi.com/; ComponentLink2Description: Datasheet; ComponentLink2URL: http://www.onsemi.com/pub_link/Collateral/EN2262-D.PDF; ComponentLink3Description: Package Specification; ComponentLink3URL: http://www.onsemi.com/pub_link/Collateral/369AH.PDF
footprint ONSC-TP-FA-3-369AH_V (DPAK, 3-Leads, Body 6.5x5.5mm, Pitch 2.3mm)
pins: 1 B, 3 E, 4 C

## 2SA1552T-E
designator Q?
Bipolar Transistor, -160 V, -1.5 A, Low VCE(sat), PNP Single, 3-Pin IPAK, Pb-Free, Bulk Bag; Manufacturer: On Semiconductor; PartNumber: 2SA1552T-E; PackageVersion: Rev. O, 01/2012; PackageReference: IPAK-3-369AJ; PackageDescription: 3-Pin Flange Mount, Vertical Straight Lead, Body 6.5 x 5.5 mm, Pitch 2.3 mm; Supplier 1: Digi-Key; Supplier Part Number 1: 2SA1552T-E-ND; Supplier 2: Mouser; Supplier Part Number 2: 863-2SA1552T-E; IC Continuous (A): -1.5; Packing: Bulk Bag; Polarity: PNP; RoHS: TRUE; Mounting Technology: Through Hole; ComponentLink1Description: Manufacturer URL; ComponentLink1URL: http://www.onsemi.com/; ComponentLink2Description: Datasheet; ComponentLink2URL: http://www.onsemi.com/pub_link/Collateral/EN2262-D.PDF; ComponentLink3Description: Package Specification; ComponentLink3URL: http://www.onsemi.cn/pub_link/Collateral/369AJ.PDF
footprint ONSC-IPAK-3-369AJ (FM, 3-Leads, Body 6.7x2.5mm, Pitch 2.3mm)
pins: 1 B, 2 C, 3 E

## 2SA1552T-H
designator Q?
Bipolar Transistor, -160 V, -1.5 A, Low VCE(sat), PNP Single, 3-Pin IPAK, Pb-Free, Bulk Bag; Manufacturer: On Semiconductor; PartNumber: 2SA1552T-H; PackageVersion: Rev. O, 01/2012; PackageReference: IPAK-3-369AJ; PackageDescription: 3-Pin Flange Mount, Vertical Straight Lead, Body 6.5 x 5.5 mm, Pitch 2.3 mm; Supplier 1: Digi-Key; Supplier Part Number 1: 2SA1552T-H-ND; Supplier 2: Mouser; Supplier Part Number 2: 863-2SA1552T-H; IC Continuous (A): -1.5; Packing: Bulk Bag; Polarity: PNP; RoHS: TRUE; Mounting Technology: Through Hole; ComponentLink1Description: Manufacturer URL; ComponentLink1URL: http://www.onsemi.com/; ComponentLink2Description: Datasheet; ComponentLink2URL: http://www.onsemi.com/pub_link/Collateral/EN2262-D.PDF; ComponentLink3Description: Package Specification; ComponentLink3URL: http://www.onsemi.cn/pub_link/Collateral/369AJ.PDF
footprint ONSC-IPAK-3-369AJ (FM, 3-Leads, Body 6.7x2.5mm, Pitch 2.3mm)
pins: 1 B, 2 C, 3 E

## 2SA1552T-TL-E
designator Q?
Bipolar Transistor, -160 V, -1.5 A, Low VCE(sat), PNP Single, 3-Pin TP-FA, Pb-Free, Tape and Reel; Manufacturer: On Semiconductor; PartNumber: 2SA1552T-TL-E; PackageVersion: Rev. O, 01/2012; PackageReference: TP-FA-3-369AH; PackageDescription: 3-Pin Flange Mount, Body 6.5 x 5.5 mm, Pitch 2.3 mm; Supplier 1: Digi-Key; Supplier Part Number 1: 2SA1552T-TL-E-ND; Supplier 2: Mouser; Supplier Part Number 2: 863-2SA1552T-TL-E; IC Continuous (A): -1.5; Packing: Tape and Reel; Polarity: PNP; RoHS: TRUE; Mounting Technology: Surface Mount; ComponentLink1Description: Manufacturer URL; ComponentLink1URL: http://www.onsemi.com/; ComponentLink2Description: Datasheet; ComponentLink2URL: http://www.onsemi.com/pub_link/Collateral/EN2262-D.PDF; ComponentLink3Description: Package Specification; ComponentLink3URL: http://www.onsemi.com/pub_link/Collateral/369AH.PDF
footprint ONSC-TP-FA-3-369AH_V (DPAK, 3-Leads, Body 6.5x5.5mm, Pitch 2.3mm)
pins: 1 B, 3 E, 4 C

## 2SA1552T-TL-H
designator Q?
Bipolar Transistor, -160 V, -1.5 A, Low VCE(sat), PNP Single, 3-Pin TP-FA, Pb-Free, Tape and Reel; Manufacturer: On Semiconductor; PartNumber: 2SA1552T-TL-H; PackageVersion: Rev. O, 01/2012; PackageReference: TP-FA-3-369AH; PackageDescription: 3-Pin Flange Mount, Body 6.5 x 5.5 mm, Pitch 2.3 mm; Supplier 1: Digi-Key; Supplier Part Number 1: 2SA1552T-TL-H-ND; Supplier 2: Mouser; Supplier Part Number 2: 863-2SA1552T-TL-H; IC Continuous (A): -1.5; Packing: Tape and Reel; Polarity: PNP; RoHS: TRUE; Mounting Technology: Surface Mount; ComponentLink1Description: Manufacturer URL; ComponentLink1URL: http://www.onsemi.com/; ComponentLink2Description: Datasheet; ComponentLink2URL: http://www.onsemi.com/pub_link/Collateral/EN2262-D.PDF; ComponentLink3Description: Package Specification; ComponentLink3URL: http://www.onsemi.com/pub_link/Collateral/369AH.PDF
footprint ONSC-TP-FA-3-369AH_V (DPAK, 3-Leads, Body 6.5x5.5mm, Pitch 2.3mm)
pins: 1 B, 3 E, 4 C

## 2SA1593S-E
designator Q?
Bipolar Transistor, -100 V, -2 A, Low VCE(sat), PNP Single, 3-Pin IPAK, Pb-Free, Bulk Bag; Manufacturer: On Semiconductor; PartNumber: 2SA1593S-E; PackageVersion: Rev. O, 01/2012; PackageReference: IPAK-3-369AJ; PackageDescription: 3-Pin Flange Mount, Vertical Straight Lead, Body 6.5 x 5.5 mm, Pitch 2.3 mm; Supplier 1: Digi-Key; Supplier Part Number 1: 2SA1593S-E-ND; Supplier 2: Mouser; Supplier Part Number 2: 863-2SA1593S-E; IC Continuous (A): -2; Packing: Bulk Bag; Polarity: PNP; RoHS: TRUE; Mounting Technology: Through Hole; ComponentLink1Description: Manufacturer URL; ComponentLink1URL: http://www.onsemi.com/; ComponentLink2Description: Datasheet; ComponentLink2URL: http://www.onsemi.com/pub_link/Collateral/EN2511-D.PDF; ComponentLink3Description: Package Specification; ComponentLink3URL: http://www.onsemi.cn/pub_link/Collateral/369AJ.PDF
footprint ONSC-IPAK-3-369AJ (FM, 3-Leads, Body 6.7x2.5mm, Pitch 2.3mm)
pins: 1 B, 2 C, 3 E

## 2SA1593S-TL-E
designator Q?
Bipolar Transistor, -100 V, -2 A, Low VCE(sat), PNP Single, 3-Pin TP-FA, Pb-Free, Tape and Reel; Manufacturer: On Semiconductor; PartNumber: 2SA1593S-TL-E; PackageVersion: Rev. O, 01/2012; PackageReference: TP-FA-3-369AH; PackageDescription: 3-Pin Flange Mount, Body 6.5 x 5.5 mm, Pitch 2.3 mm; Supplier 1: Digi-Key; Supplier Part Number 1: 2SA1593S-TL-E-ND; Supplier 2: Mouser; Supplier Part Number 2: 863-2SA1593S-TL-E; IC Continuous (A): -2; Packing: Tape and Reel; Polarity: PNP; RoHS: TRUE; Mounting Technology: Surface Mount; ComponentLink1Description: Manufacturer URL; ComponentLink1URL: http://www.onsemi.com/; ComponentLink2Description: Datasheet; ComponentLink2URL: http://www.onsemi.com/pub_link/Collateral/EN2511-D.PDF; ComponentLink3Description: Package Specification; ComponentLink3URL: http://www.onsemi.com/pub_link/Collateral/369AH.PDF
footprint ONSC-TP-FA-3-369AH_V (DPAK, 3-Leads, Body 6.5x5.5mm, Pitch 2.3mm)
pins: 1 B, 3 E, 4 C

## 2SA1593T-E
designator Q?
Bipolar Transistor, -100 V, -2 A, Low VCE(sat), PNP Single, 3-Pin IPAK, Pb-Free, Bulk Bag; Manufacturer: On Semiconductor; PartNumber: 2SA1593T-E; PackageVersion: Rev. O, 01/2012; PackageReference: IPAK-3-369AJ; PackageDescription: 3-Pin Flange Mount, Vertical Straight Lead, Body 6.5 x 5.5 mm, Pitch 2.3 mm; Supplier 1: Digi-Key; Supplier Part Number 1: 2SA1593T-E-ND; Supplier 2: Mouser; Supplier Part Number 2: 863-2SA1593T-E; IC Continuous (A): -2; Packing: Bulk Bag; Polarity: PNP; RoHS: TRUE; Mounting Technology: Through Hole; ComponentLink1Description: Manufacturer URL; ComponentLink1URL: http://www.onsemi.com/; ComponentLink2Description: Datasheet; ComponentLink2URL: http://www.onsemi.com/pub_link/Collateral/EN2511-D.PDF; ComponentLink3Description: Package Specification; ComponentLink3URL: http://www.onsemi.cn/pub_link/Collateral/369AJ.PDF
footprint ONSC-IPAK-3-369AJ (FM, 3-Leads, Body 6.7x2.5mm, Pitch 2.3mm)
pins: 1 B, 2 C, 3 E

## 2SA1593T-TL-E
designator Q?
Bipolar Transistor, -100 V, -2 A, Low VCE(sat), PNP Single, 3-Pin TP-FA, Pb-Free, Tape and Reel; Manufacturer: On Semiconductor; PartNumber: 2SA1593T-TL-E; PackageVersion: Rev. O, 01/2012; PackageReference: TP-FA-3-369AH; PackageDescription: 3-Pin Flange Mount, Body 6.5 x 5.5 mm, Pitch 2.3 mm; Supplier 1: Digi-Key; Supplier Part Number 1: 2SA1593T-TL-E-ND; Supplier 2: Mouser; Supplier Part Number 2: 863-2SA1593T-TL-E; IC Continuous (A): -2; Packing: Tape and Reel; Polarity: PNP; RoHS: TRUE; Mounting Technology: Surface Mount; ComponentLink1Description: Manufacturer URL; ComponentLink1URL: http://www.onsemi.com/; ComponentLink2Description: Datasheet; ComponentLink2URL: http://www.onsemi.com/pub_link/Collateral/EN2511-D.PDF; ComponentLink3Description: Package Specification; ComponentLink3URL: http://www.onsemi.com/pub_link/Collateral/369AH.PDF
footprint ONSC-TP-FA-3-369AH_V (DPAK, 3-Leads, Body 6.5x5.5mm, Pitch 2.3mm)
pins: 1 B, 3 E, 4 C

## 2SA1705S-AN
designator Q?
Bipolar Transistor, -50 V, -1 A, Low VCE(sat), PNP Single, 3-Pin NMP, Pb-Free, Ammo Box; Manufacturer: On Semiconductor; PartNumber: 2SA1705S-AN; PackageVersion: Rev. A, 05/2012; PackageReference: NMP-3-135AD; PackageDescription: 3-Pin Transistor Outline, Body 6.9 x 2.5 mm, Pitch 2.54 mm; Supplier 1: Digi-Key; Supplier Part Number 1: 2SA1705S-AN-ND; Supplier 2: Newark; Supplier Part Number 2: 65T2437; Supplier 3: Mouser; Supplier Part Number 3: 863-2SA1705S-AN; IC Continuous (A): -1; Packing: Ammo Box; Polarity: PNP; RoHS: TRUE; Mounting Technology: Through Hole; ComponentLink1Description: Manufacturer URL; ComponentLink1URL: http://www.onsemi.com/; ComponentLink2Description: Datasheet; ComponentLink2URL: http://www.onsemi.com/pub_link/Collateral/EN3025-D.PDF; ComponentLink3Description: Package Specification; ComponentLink3URL: http://www.onsemi.com/pub_link/Collateral/135AD.PDF
footprint ONSC-NMP-3-135AD (NMP, 3-Leads, Body 6.9x2.45mm, Pitch 2.54mm)
pins: 1 E, 2 C, 3 B

## 2SA1705T-AN
designator Q?
Bipolar Transistor, -50 V, -1 A, Low VCE(sat), PNP Single, 3-Pin NMP, Pb-Free, Ammo Box; Manufacturer: On Semiconductor; PartNumber: 2SA1705T-AN; PackageVersion: Rev. A, 05/2012; PackageReference: NMP-3-135AD; PackageDescription: 3-Pin Transistor Outline, Body 6.9 x 2.5 mm, Pitch 2.54 mm; Supplier 1: Digi-Key; Supplier Part Number 1: 2SA1705T-AN-ND; Supplier 2: Mouser; Supplier Part Number 2: 863-2SA1705T-AN; IC Continuous (A): -1; Packing: Ammo Box; Polarity: PNP; RoHS: TRUE; Mounting Technology: Through Hole; ComponentLink1Description: Manufacturer URL; ComponentLink1URL: http://www.onsemi.com/; ComponentLink2Description: Datasheet; ComponentLink2URL: http://www.onsemi.com/pub_link/Collateral/EN3025-D.PDF; ComponentLink3Description: Package Specification; ComponentLink3URL: http://www.onsemi.com/pub_link/Collateral/135AD.PDF
footprint ONSC-NMP-3-135AD (NMP, 3-Leads, Body 6.9x2.45mm, Pitch 2.54mm)
pins: 1 E, 2 C, 3 B

## 2SA1706S-AN
designator Q?
Bipolar Transistor, -50 V, -2 A, Low VCE(sat), PNP Single, 3-Pin NMP, Pb-Free, Ammo Box; Manufacturer: On Semiconductor; PartNumber: 2SA1706S-AN; PackageVersion: Rev. A, 05/2012; PackageReference: NMP-3-135AD; PackageDescription: 3-Pin Transistor Outline, Body 6.9 x 2.5 mm, Pitch 2.54 mm; Supplier 1: Digi-Key; Supplier Part Number 1: 2SA1706S-AN-ND; Supplier 2: Mouser; Supplier Part Number 2: 863-2SA1706S-AN; IC Continuous (A): -2; Packing: Ammo Box; Polarity: PNP; RoHS: TRUE; Mounting Technology: Through Hole; ComponentLink1Description: Manufacturer URL; ComponentLink1URL: http://www.onsemi.com/; ComponentLink2Description: Datasheet; ComponentLink2URL: http://www.onsemi.com/pub_link/Collateral/EN3026-D.PDF; ComponentLink3Description: Package Specification; ComponentLink3URL: http://www.onsemi.com/pub_link/Collateral/135AD.PDF
footprint ONSC-NMP-3-135AD (NMP, 3-Leads, Body 6.9x2.45mm, Pitch 2.54mm)
pins: 1 E, 2 C, 3 B

## 2SA1706T-AN
designator Q?
Bipolar Transistor, -50 V, -2 A, Low VCE(sat), PNP Single, 3-Pin NMP, Pb-Free, Ammo Box; Manufacturer: On Semiconductor; PartNumber: 2SA1706T-AN; PackageVersion: Rev. A, 05/2012; PackageReference: NMP-3-135AD; PackageDescription: 3-Pin Transistor Outline, Body 6.9 x 2.5 mm, Pitch 2.54 mm; Supplier 1: Digi-Key; Supplier Part Number 1: 2SA1706T-AN-ND; Supplier 2: Mouser; Supplier Part Number 2: 863-2SA1706T-AN; IC Continuous (A): -2; Packing: Ammo Box; Polarity: PNP; RoHS: TRUE; Mounting Technology: Through Hole; ComponentLink1Description: Manufacturer URL; ComponentLink1URL: http://www.onsemi.com/; ComponentLink2Description: Datasheet; ComponentLink2URL: http://www.onsemi.com/pub_link/Collateral/EN3026-D.PDF; ComponentLink3Description: Package Specification; ComponentLink3URL: http://www.onsemi.com/pub_link/Collateral/135AD.PDF
footprint ONSC-NMP-3-135AD (NMP, 3-Leads, Body 6.9x2.45mm, Pitch 2.54mm)
pins: 1 E, 2 C, 3 B

## 2SA1708S-AN
designator Q?
Bipolar Transistor, -100 V, -1 A, Low VCE(sat), PNP Single, 3-Pin NMP, Pb-Free, Ammo Box; Manufacturer: On Semiconductor; PartNumber: 2SA1708S-AN; PackageVersion: Rev. A, 05/2012; PackageReference: NMP-3-135AD; PackageDescription: 3-Pin Transistor Outline, Body 6.9 x 2.5 mm, Pitch 2.54 mm; Supplier 1: Digi-Key; Supplier Part Number 1: 2SA1708S-AN-ND; Supplier 2: Newark; Supplier Part Number 2: 65T2439; Supplier 3: Mouser; Supplier Part Number 3: 863-2SA1708S-AN; IC Continuous (A): -1; Packing: Ammo Box; Polarity: PNP; RoHS: TRUE; Mounting Technology: Through Hole; ComponentLink1Description: Manufacturer URL; ComponentLink1URL: http://www.onsemi.com/; ComponentLink2Description: Datasheet; ComponentLink2URL: http://www.onsemi.com/pub_link/Collateral/EN3094-D.PDF; ComponentLink3Description: Package Specification; ComponentLink3URL: http://www.onsemi.com/pub_link/Collateral/135AD.PDF
footprint ONSC-NMP-3-135AD (NMP, 3-Leads, Body 6.9x2.45mm, Pitch 2.54mm)
pins: 1 E, 2 C, 3 B

## 2SA1708T-AN
designator Q?
Bipolar Transistor, -100 V, -1 A, Low VCE(sat), PNP Single, 3-Pin NMP, Pb-Free, Ammo Box; Manufacturer: On Semiconductor; PartNumber: 2SA1708T-AN; PackageVersion: Rev. A, 05/2012; PackageReference: NMP-3-135AD; PackageDescription: 3-Pin Transistor Outline, Body 6.9 x 2.5 mm, Pitch 2.54 mm; Supplier 1: Digi-Key; Supplier Part Number 1: 2SA1708T-AN-ND; Supplier 2: Mouser; Supplier Part Number 2: 863-2SA1708T-AN; IC Continuous (A): -1; Packing: Ammo Box; Polarity: PNP; RoHS: TRUE; Mounting Technology: Through Hole; ComponentLink1Description: Manufacturer URL; ComponentLink1URL: http://www.onsemi.com/; ComponentLink2Description: Datasheet; ComponentLink2URL: http://www.onsemi.com/pub_link/Collateral/EN3094-D.PDF; ComponentLink3Description: Package Specification; ComponentLink3URL: http://www.onsemi.com/pub_link/Collateral/135AD.PDF
footprint ONSC-NMP-3-135AD (NMP, 3-Leads, Body 6.9x2.45mm, Pitch 2.54mm)
pins: 1 E, 2 C, 3 B